# Altium integrated library Altium_WCAP-ASLI (rev25a).IntLib: 143 symbols (part 1 of 3)
Pins are listed as number, name and electrical type; pins without a type are passive.

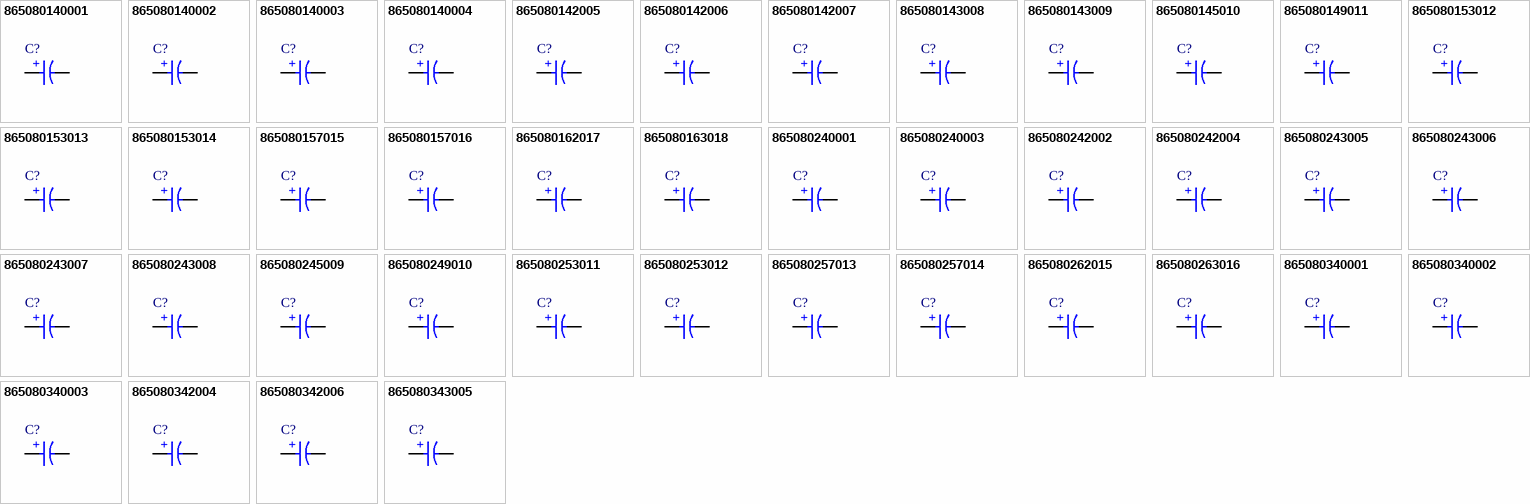
[diagram p0: symbols 865080140001 to 865080343005]

## 865080140001
designator C?, comment 22μF  (value not drawn)
WCAP-ASLI Aluminum Electrolytic Capacitor, V-Chip, SMT, 4mm x 5.5mm, 22μF, 6.3V; Manufacturer Part Number: 865080140001; Manufacturer: Wurth Elektronik; Dissipation Factor: 24%; Endurance: 2000h; Impedance: 2200mΩ; Leakage Current: 3μA; Ripple Current: 75mA; Category: Aluminum Electrolytic Capacitors; Match Code: WCAP-ASLI; ComponentLink1Description: Website Link; ComponentLink1URL: https://www.we-online.com/redexpert/article/865080140001?ad; ComponentLink2Description: Datasheet Link; ComponentLink2URL: https://www.we-online.com/redexpert/spec/865080140001?ad; Mount: Surface Mount; Min Operating Temperature: -55°C; Max Operating Temperature: 105°C; Packaging: Tape and Reel; Height: 5.5mm; Diameter: 4mm; Capacitance: 22μF; Rated Voltage (DC): 6.3V
footprint WCAP-ASLI_D4H5.5
simulation model 865080140001_22uF
pins: 1 P, 2 N
text: +

## 865080140002
designator C?, comment 27μF  (value not drawn)
WCAP-ASLI Aluminum Electrolytic Capacitor, V-Chip, SMT, 4mm x 5.5mm, 27μF, 6.3V; Manufacturer Part Number: 865080140002; Manufacturer: Wurth Elektronik; Dissipation Factor: 24%; Endurance: 2000h; Impedance: 1980mΩ; Leakage Current: 3μA; Ripple Current: 79mA; Category: Aluminum Electrolytic Capacitors; Match Code: WCAP-ASLI; ComponentLink1Description: Website Link; ComponentLink1URL: https://www.we-online.com/redexpert/article/865080140002?ad; ComponentLink2Description: Datasheet Link; ComponentLink2URL: https://www.we-online.com/redexpert/spec/865080140002?ad; Mount: Surface Mount; Min Operating Temperature: -55°C; Max Operating Temperature: 105°C; Packaging: Tape and Reel; Height: 5.5mm; Diameter: 4mm; Capacitance: 27μF; Rated Voltage (DC): 6.3V
footprint WCAP-ASLI_D4H5.5
simulation model 865080140002_27uF
pins: 1 P, 2 N
text: +

## 865080140003
designator C?, comment 33μF  (value not drawn)
WCAP-ASLI Aluminum Electrolytic Capacitor, V-Chip, SMT, 4mm x 5.5mm, 33μF, 6.3V; Manufacturer Part Number: 865080140003; Manufacturer: Wurth Elektronik; Dissipation Factor: 24%; Endurance: 2000h; Impedance: 1900mΩ; Leakage Current: 3μA; Ripple Current: 82mA; Category: Aluminum Electrolytic Capacitors; Match Code: WCAP-ASLI; ComponentLink1Description: Website Link; ComponentLink1URL: https://www.we-online.com/redexpert/article/865080140003?ad; ComponentLink2Description: Datasheet Link; ComponentLink2URL: https://www.we-online.com/redexpert/spec/865080140003?ad; Mount: Surface Mount; Min Operating Temperature: -55°C; Max Operating Temperature: 105°C; Packaging: Tape and Reel; Height: 5.5mm; Diameter: 4mm; Capacitance: 33μF; Rated Voltage (DC): 6.3V
footprint WCAP-ASLI_D4H5.5
simulation model 865080140003_33uF
pins: 1 P, 2 N
text: +

## 865080140004
designator C?, comment 47μF  (value not drawn)
WCAP-ASLI Aluminum Electrolytic Capacitor, V-Chip, SMT, 4mm x 5.5mm, 47μF, 6.3V; Manufacturer Part Number: 865080140004; Manufacturer: Wurth Elektronik; Dissipation Factor: 24%; Endurance: 2000h; Impedance: 1880mΩ; Leakage Current: 3μA; Ripple Current: 86mA; Category: Aluminum Electrolytic Capacitors; Match Code: WCAP-ASLI; ComponentLink1Description: Website Link; ComponentLink1URL: https://www.we-online.com/redexpert/article/865080140004?ad; ComponentLink2Description: Datasheet Link; ComponentLink2URL: https://www.we-online.com/redexpert/spec/865080140004?ad; Mount: Surface Mount; Min Operating Temperature: -55°C; Max Operating Temperature: 105°C; Packaging: Tape and Reel; Height: 5.5mm; Diameter: 4mm; Capacitance: 47μF; Rated Voltage (DC): 6.3V
footprint WCAP-ASLI_D4H5.5
simulation model 865080140004_47uF
pins: 1 P, 2 N
text: +

## 865080142005
designator C?, comment 56μF  (value not drawn)
WCAP-ASLI Aluminum Electrolytic Capacitor, V-Chip, SMT, 5mm x 5.5mm, 56μF, 6.3V; Manufacturer Part Number: 865080142005; Manufacturer: Wurth Elektronik; Dissipation Factor: 24%; Endurance: 2000h; Impedance: 1100mΩ; Leakage Current: 3.528μA; Ripple Current: 150mA; Category: Aluminum Electrolytic Capacitors; Match Code: WCAP-ASLI; ComponentLink1Description: Website Link; ComponentLink1URL: https://www.we-online.com/redexpert/article/865080142005?ad; ComponentLink2Description: Datasheet Link; ComponentLink2URL: https://www.we-online.com/redexpert/spec/865080142005?ad; Mount: Surface Mount; Min Operating Temperature: -55°C; Max Operating Temperature: 105°C; Packaging: Tape and Reel; Height: 5.5mm; Diameter: 5mm; Capacitance: 56μF; Rated Voltage (DC): 6.3V
footprint WCAP-ASLI_D5H5.5
simulation model 865080142005_56uF
pins: 1 P, 2 N
text: +

## 865080142006
designator C?, comment 68μF  (value not drawn)
WCAP-ASLI Aluminum Electrolytic Capacitor, V-Chip, SMT, 5mm x 5.5mm, 68μF, 6.3V; Manufacturer Part Number: 865080142006; Manufacturer: Wurth Elektronik; Dissipation Factor: 24%; Endurance: 2000h; Impedance: 900mΩ; Leakage Current: 4.284μA; Ripple Current: 160mA; Category: Aluminum Electrolytic Capacitors; Match Code: WCAP-ASLI; ComponentLink1Description: Website Link; ComponentLink1URL: https://www.we-online.com/redexpert/article/865080142006?ad; ComponentLink2Description: Datasheet Link; ComponentLink2URL: https://www.we-online.com/redexpert/spec/865080142006?ad; Mount: Surface Mount; Min Operating Temperature: -55°C; Max Operating Temperature: 105°C; Packaging: Tape and Reel; Height: 5.5mm; Diameter: 5mm; Capacitance: 68μF; Rated Voltage (DC): 6.3V
footprint WCAP-ASLI_D5H5.5
simulation model 865080142006_68uF
pins: 1 P, 2 N
text: +

## 865080142007
designator C?, comment 100μF  (value not drawn)
WCAP-ASLI Aluminum Electrolytic Capacitor, V-Chip, SMT, 5mm x 5.5mm, 100μF, 6.3V; Manufacturer Part Number: 865080142007; Manufacturer: Wurth Elektronik; Dissipation Factor: 24%; Endurance: 2000h; Impedance: 800mΩ; Leakage Current: 6.3μA; Ripple Current: 170mA; Category: Aluminum Electrolytic Capacitors; Match Code: WCAP-ASLI; ComponentLink1Description: Website Link; ComponentLink1URL: https://www.we-online.com/redexpert/article/865080142007?ad; ComponentLink2Description: Datasheet Link; ComponentLink2URL: https://www.we-online.com/redexpert/spec/865080142007?ad; Mount: Surface Mount; Min Operating Temperature: -55°C; Max Operating Temperature: 105°C; Packaging: Tape and Reel; Height: 5.5mm; Diameter: 5mm; Capacitance: 100μF; Rated Voltage (DC): 6.3V
footprint WCAP-ASLI_D5H5.5
simulation model 865080142007_100uF
pins: 1 P, 2 N
text: +

## 865080143008
designator C?, comment 150μF  (value not drawn)
WCAP-ASLI Aluminum Electrolytic Capacitor, V-Chip, SMT, 6.3mm x 5.5mm, 150μF, 6.3V; Manufacturer Part Number: 865080143008; Manufacturer: Wurth Elektronik; Dissipation Factor: 24%; Endurance: 2000h; Impedance: 510mΩ; Leakage Current: 9.45μA; Ripple Current: 235mA; Category: Aluminum Electrolytic Capacitors; Match Code: WCAP-ASLI; ComponentLink1Description: Website Link; ComponentLink1URL: https://www.we-online.com/redexpert/article/865080143008?ad; ComponentLink2Description: Datasheet Link; ComponentLink2URL: https://www.we-online.com/redexpert/spec/865080143008?ad; Mount: Surface Mount; Min Operating Temperature: -55°C; Max Operating Temperature: 105°C; Packaging: Tape and Reel; Height: 5.5mm; Diameter: 6.3mm; Capacitance: 150μF; Rated Voltage (DC): 6.3V
footprint WCAP-ASLI_D6.3H5.5
simulation model 865080143008_150uF
pins: 1 P, 2 N
text: +

## 865080143009
designator C?, comment 220μF  (value not drawn)
WCAP-ASLI Aluminum Electrolytic Capacitor, V-Chip, SMT, 6.3mm x 5.5mm, 220μF, 6.3V; Manufacturer Part Number: 865080143009; Manufacturer: Wurth Elektronik; Dissipation Factor: 24%; Endurance: 2000h; Impedance: 480mΩ; Leakage Current: 13.86μA; Ripple Current: 240mA; Category: Aluminum Electrolytic Capacitors; Match Code: WCAP-ASLI; ComponentLink1Description: Website Link; ComponentLink1URL: https://www.we-online.com/redexpert/article/865080143009?ad; ComponentLink2Description: Datasheet Link; ComponentLink2URL: https://www.we-online.com/redexpert/spec/865080143009?ad; Mount: Surface Mount; Min Operating Temperature: -55°C; Max Operating Temperature: 105°C; Packaging: Tape and Reel; Height: 5.5mm; Diameter: 6.3mm; Capacitance: 220μF; Rated Voltage (DC): 6.3V
footprint WCAP-ASLI_D6.3H5.5
simulation model 865080143009_220uF
pins: 1 P, 2 N
text: +

## 865080145010
designator C?, comment 330μF  (value not drawn)
WCAP-ASLI Aluminum Electrolytic Capacitor, V-Chip, SMT, 6.3mm x 7.7mm, 330μF, 6.3V; Manufacturer Part Number: 865080145010; Manufacturer: Wurth Elektronik; Dissipation Factor: 24%; Endurance: 2000h; Impedance: 360mΩ; Leakage Current: 20.79μA; Ripple Current: 275mA; Category: Aluminum Electrolytic Capacitors; Match Code: WCAP-ASLI; ComponentLink1Description: Website Link; ComponentLink1URL: https://www.we-online.com/redexpert/article/865080145010?ad; ComponentLink2Description: Datasheet Link; ComponentLink2URL: https://www.we-online.com/redexpert/spec/865080145010?ad; Mount: Surface Mount; Min Operating Temperature: -55°C; Max Operating Temperature: 105°C; Packaging: Tape and Reel; Height: 7.7mm; Diameter: 6.3mm; Capacitance: 330μF; Rated Voltage (DC): 6.3V
footprint WCAP-ASLI_D6.3H7.7
simulation model 865080145010_330uF
pins: 1 P, 2 N
text: +

## 865080149011
designator C?, comment 330μF  (value not drawn)
WCAP-ASLI Aluminum Electrolytic Capacitor, V-Chip, SMT, 8mm x 6.5mm, 330μF, 6.3V; Manufacturer Part Number: 865080149011; Manufacturer: Wurth Elektronik; Dissipation Factor: 24%; Endurance: 2000h; Impedance: 340mΩ; Leakage Current: 20.79μA; Ripple Current: 290mA; Category: Aluminum Electrolytic Capacitors; Match Code: WCAP-ASLI; ComponentLink1Description: Website Link; ComponentLink1URL: https://www.we-online.com/redexpert/article/865080149011?ad; ComponentLink2Description: Datasheet Link; ComponentLink2URL: https://www.we-online.com/redexpert/spec/865080149011?ad; Mount: Surface Mount; Min Operating Temperature: -55°C; Max Operating Temperature: 105°C; Packaging: Tape and Reel; Height: 6.5mm; Diameter: 8mm; Capacitance: 330μF; Rated Voltage (DC): 6.3V
footprint WCAP-ASLI_D8H6.5
simulation model 865080149011_330uF
pins: 1 P, 2 N
text: +

## 865080153012
designator C?, comment 470μF  (value not drawn)
WCAP-ASLI Aluminum Electrolytic Capacitor, V-Chip, SMT, 8mm x 10.5mm, 470μF, 6.3V; Manufacturer Part Number: 865080153012; Manufacturer: Wurth Elektronik; Dissipation Factor: 24%; Endurance: 2000h; Impedance: 280mΩ; Leakage Current: 29.61μA; Ripple Current: 450mA; Category: Aluminum Electrolytic Capacitors; Match Code: WCAP-ASLI; ComponentLink1Description: Website Link; ComponentLink1URL: https://www.we-online.com/redexpert/article/865080153012?ad; ComponentLink2Description: Datasheet Link; ComponentLink2URL: https://www.we-online.com/redexpert/spec/865080153012?ad; Mount: Surface Mount; Min Operating Temperature: -55°C; Max Operating Temperature: 105°C; Packaging: Tape and Reel; Height: 10.5mm; Diameter: 8mm; Capacitance: 470μF; Rated Voltage (DC): 6.3V
footprint WCAP-ASLI_D8H10.5
simulation model 865080153012_470uF
pins: 1 P, 2 N
text: +

## 865080153013
designator C?, comment 680μF  (value not drawn)
WCAP-ASLI Aluminum Electrolytic Capacitor, V-Chip, SMT, 8mm x 10.5mm, 680μF, 6.3V; Manufacturer Part Number: 865080153013; Manufacturer: Wurth Elektronik; Dissipation Factor: 24%; Endurance: 2000h; Impedance: 250mΩ; Leakage Current: 42.84μA; Ripple Current: 500mA; Category: Aluminum Electrolytic Capacitors; Match Code: WCAP-ASLI; ComponentLink1Description: Website Link; ComponentLink1URL: https://www.we-online.com/redexpert/article/865080153013?ad; ComponentLink2Description: Datasheet Link; ComponentLink2URL: https://www.we-online.com/redexpert/spec/865080153013?ad; Mount: Surface Mount; Min Operating Temperature: -55°C; Max Operating Temperature: 105°C; Packaging: Tape and Reel; Height: 10.5mm; Diameter: 8mm; Capacitance: 680μF; Rated Voltage (DC): 6.3V
footprint WCAP-ASLI_D8H10.5
simulation model 865080153013_680uF
pins: 1 P, 2 N
text: +

## 865080153014
designator C?, comment 1000μF  (value not drawn)
WCAP-ASLI Aluminum Electrolytic Capacitor, V-Chip, SMT, 8mm x 10.5mm, 1000μF, 6.3V; Manufacturer Part Number: 865080153014; Manufacturer: Wurth Elektronik; Dissipation Factor: 24%; Endurance: 2000h; Impedance: 200mΩ; Leakage Current: 63μA; Ripple Current: 530mA; Category: Aluminum Electrolytic Capacitors; Match Code: WCAP-ASLI; ComponentLink1Description: Website Link; ComponentLink1URL: https://www.we-online.com/redexpert/article/865080153014?ad; ComponentLink2Description: Datasheet Link; ComponentLink2URL: https://www.we-online.com/redexpert/spec/865080153014?ad; Mount: Surface Mount; Min Operating Temperature: -55°C; Max Operating Temperature: 105°C; Packaging: Tape and Reel; Height: 10.5mm; Diameter: 8mm; Capacitance: 1000μF; Rated Voltage (DC): 6.3V
footprint WCAP-ASLI_D8H10.5
simulation model 865080153014_1mF
pins: 1 P, 2 N
text: +

## 865080157015
designator C?, comment 1200μF  (value not drawn)
WCAP-ASLI Aluminum Electrolytic Capacitor, V-Chip, SMT, 10mm x 10.5mm, 1200μF, 6.3V; Manufacturer Part Number: 865080157015; Manufacturer: Wurth Elektronik; Dissipation Factor: 24%; Endurance: 2000h; Impedance: 160mΩ; Leakage Current: 75.6μA; Ripple Current: 600mA; Category: Aluminum Electrolytic Capacitors; Match Code: WCAP-ASLI; ComponentLink1Description: Website Link; ComponentLink1URL: https://www.we-online.com/redexpert/article/865080157015?ad; ComponentLink2Description: Datasheet Link; ComponentLink2URL: https://www.we-online.com/redexpert/spec/865080157015?ad; Mount: Surface Mount; Min Operating Temperature: -55°C; Max Operating Temperature: 105°C; Packaging: Tape and Reel; Height: 10.5mm; Diameter: 10mm; Capacitance: 1200μF; Rated Voltage (DC): 6.3V
footprint WCAP-ASLI_D10H10.5
simulation model 865080157015_1.2mF
pins: 1 P, 2 N
text: +

## 865080157016
designator C?, comment 1500μF  (value not drawn)
WCAP-ASLI Aluminum Electrolytic Capacitor, V-Chip, SMT, 10mm x 10.5mm, 1500μF, 6.3V; Manufacturer Part Number: 865080157016; Manufacturer: Wurth Elektronik; Dissipation Factor: 24%; Endurance: 2000h; Impedance: 130mΩ; Leakage Current: 94.5μA; Ripple Current: 650mA; Category: Aluminum Electrolytic Capacitors; Match Code: WCAP-ASLI; ComponentLink1Description: Website Link; ComponentLink1URL: https://www.we-online.com/redexpert/article/865080157016?ad; ComponentLink2Description: Datasheet Link; ComponentLink2URL: https://www.we-online.com/redexpert/spec/865080157016?ad; Mount: Surface Mount; Min Operating Temperature: -55°C; Max Operating Temperature: 105°C; Packaging: Tape and Reel; Height: 10.5mm; Diameter: 10mm; Capacitance: 1500μF; Rated Voltage (DC): 6.3V
footprint WCAP-ASLI_D10H10.5
simulation model 865080157016_1.5mF
pins: 1 P, 2 N
text: +

## 865080162017
designator C?, comment 3300μF  (value not drawn)
WCAP-ASLI Aluminum Electrolytic Capacitor, V-Chip, SMT, 12.5mm x 14mm, 3300μF, 6.3V; Manufacturer Part Number: 865080162017; Manufacturer: Wurth Elektronik; Dissipation Factor: 28%; Endurance: 5000h; Impedance: 80mΩ; Leakage Current: 207.9μA; Ripple Current: 1100mA; Category: Aluminum Electrolytic Capacitors; Match Code: WCAP-ASLI; ComponentLink1Description: Website Link; ComponentLink1URL: https://www.we-online.com/redexpert/article/865080162017?ad; ComponentLink2Description: Datasheet Link; ComponentLink2URL: https://www.we-online.com/redexpert/spec/865080162017?ad; Mount: Surface Mount; Min Operating Temperature: -55°C; Max Operating Temperature: 105°C; Packaging: Tape and Reel; Height: 14mm; Diameter: 12.5mm; Capacitance: 3300μF; Rated Voltage (DC): 6.3V
footprint WCAP-ASLI_D12.5H14
simulation model 865080162017_3.3mF
pins: 1 P, 2 N
text: +

## 865080163018
designator C?, comment 6800μF  (value not drawn)
WCAP-ASLI Aluminum Electrolytic Capacitor, V-Chip, SMT, 16mm x 17mm, 6800μF, 6.3V; Manufacturer Part Number: 865080163018; Manufacturer: Wurth Elektronik; Dissipation Factor: 34%; Endurance: 5000h; Impedance: 52mΩ; Leakage Current: 428.4μA; Ripple Current: 1250mA; Category: Aluminum Electrolytic Capacitors; Match Code: WCAP-ASLI; ComponentLink1Description: Website Link; ComponentLink1URL: https://www.we-online.com/redexpert/article/865080163018?ad; ComponentLink2Description: Datasheet Link; ComponentLink2URL: https://www.we-online.com/redexpert/spec/865080163018?ad; Mount: Surface Mount; Min Operating Temperature: -55°C; Max Operating Temperature: 105°C; Packaging: Tape and Reel; Height: 17mm; Diameter: 16mm; Capacitance: 6800μF; Rated Voltage (DC): 6.3V
footprint WCAP-ASLI_D16H17
simulation model 865080163018_6.8mF
pins: 1 P, 2 N
text: +

## 865080240001
designator C?, comment 22μF  (value not drawn)
WCAP-ASLI Aluminum Electrolytic Capacitor, V-Chip, SMT, 4mm x 5.5mm, 22μF, 10V; Manufacturer Part Number: 865080240001; Manufacturer: Wurth Elektronik; Dissipation Factor: 19%; Endurance: 2000h; Impedance: 2200mΩ; Leakage Current: 3μA; Ripple Current: 80mA; Category: Aluminum Electrolytic Capacitors; Match Code: WCAP-ASLI; ComponentLink1Description: Website Link; ComponentLink1URL: https://www.we-online.com/redexpert/article/865080240001?ad; ComponentLink2Description: Datasheet Link; ComponentLink2URL: https://www.we-online.com/redexpert/spec/865080240001?ad; Mount: Surface Mount; Min Operating Temperature: -55°C; Max Operating Temperature: 105°C; Packaging: Tape and Reel; Height: 5.5mm; Diameter: 4mm; Capacitance: 22μF; Rated Voltage (DC): 10V
footprint WCAP-ASLI_D4H5.5
simulation model 865080240001_22uF
pins: 1 P, 2 N
text: +

## 865080240003
designator C?, comment 33μF  (value not drawn)
WCAP-ASLI Aluminum Electrolytic Capacitor, V-Chip, SMT, 4mm x 5.5mm, 33μF, 10V; Manufacturer Part Number: 865080240003; Manufacturer: Wurth Elektronik; Dissipation Factor: 19%; Endurance: 2000h; Impedance: 1850mΩ; Leakage Current: 3.3μA; Ripple Current: 90mA; Category: Aluminum Electrolytic Capacitors; Match Code: WCAP-ASLI; ComponentLink1Description: Website Link; ComponentLink1URL: https://www.we-online.com/redexpert/article/865080240003?ad; ComponentLink2Description: Datasheet Link; ComponentLink2URL: https://www.we-online.com/redexpert/spec/865080240003?ad; Mount: Surface Mount; Min Operating Temperature: -55°C; Max Operating Temperature: 105°C; Packaging: Tape and Reel; Height: 5.5mm; Diameter: 4mm; Capacitance: 33μF; Rated Voltage (DC): 10V
footprint WCAP-ASLI_D4H5.5
simulation model 865080240003_33uF
pins: 1 P, 2 N
text: +

## 865080242002
designator C?, comment 27μF  (value not drawn)
WCAP-ASLI Aluminum Electrolytic Capacitor, V-Chip, SMT, 5mm x 5.5mm, 27μF, 10V; Manufacturer Part Number: 865080242002; Manufacturer: Wurth Elektronik; Dissipation Factor: 19%; Endurance: 2000h; Impedance: 1900mΩ; Leakage Current: 3μA; Ripple Current: 125mA; Category: Aluminum Electrolytic Capacitors; Match Code: WCAP-ASLI; ComponentLink1Description: Website Link; ComponentLink1URL: https://www.we-online.com/redexpert/article/865080242002?ad; ComponentLink2Description: Datasheet Link; ComponentLink2URL: https://www.we-online.com/redexpert/spec/865080242002?ad; Mount: Surface Mount; Min Operating Temperature: -55°C; Max Operating Temperature: 105°C; Packaging: Tape and Reel; Height: 5.5mm; Diameter: 5mm; Capacitance: 27μF; Rated Voltage (DC): 10V
footprint WCAP-ASLI_D5H5.5
simulation model 865080242002_27uF
pins: 1 P, 2 N
text: +

## 865080242004
designator C?, comment 47μF  (value not drawn)
WCAP-ASLI Aluminum Electrolytic Capacitor, V-Chip, SMT, 5mm x 5.5mm, 47μF, 10V; Manufacturer Part Number: 865080242004; Manufacturer: Wurth Elektronik; Dissipation Factor: 19%; Endurance: 2000h; Impedance: 1100mΩ; Leakage Current: 4.7μA; Ripple Current: 165mA; Category: Aluminum Electrolytic Capacitors; Match Code: WCAP-ASLI; ComponentLink1Description: Website Link; ComponentLink1URL: https://www.we-online.com/redexpert/article/865080242004?ad; ComponentLink2Description: Datasheet Link; ComponentLink2URL: https://www.we-online.com/redexpert/spec/865080242004?ad; Mount: Surface Mount; Min Operating Temperature: -55°C; Max Operating Temperature: 105°C; Packaging: Tape and Reel; Height: 5.5mm; Diameter: 5mm; Capacitance: 47μF; Rated Voltage (DC): 10V
footprint WCAP-ASLI_D5H5.5
simulation model 865080242004_47uF
pins: 1 P, 2 N
text: +

## 865080243005
designator C?, comment 56μF  (value not drawn)
WCAP-ASLI Aluminum Electrolytic Capacitor, V-Chip, SMT, 6.3mm x 5.5mm, 56μF, 10V; Manufacturer Part Number: 865080243005; Manufacturer: Wurth Elektronik; Dissipation Factor: 19%; Endurance: 2000h; Impedance: 570mΩ; Leakage Current: 5.6μA; Ripple Current: 210mA; Category: Aluminum Electrolytic Capacitors; Match Code: WCAP-ASLI; ComponentLink1Description: Website Link; ComponentLink1URL: https://www.we-online.com/redexpert/article/865080243005?ad; ComponentLink2Description: Datasheet Link; ComponentLink2URL: https://www.we-online.com/redexpert/spec/865080243005?ad; Mount: Surface Mount; Min Operating Temperature: -55°C; Max Operating Temperature: 105°C; Packaging: Tape and Reel; Height: 5.5mm; Diameter: 6.3mm; Capacitance: 56μF; Rated Voltage (DC): 10V
footprint WCAP-ASLI_D6.3H5.5
simulation model 865080243005_56uF
pins: 1 P, 2 N
text: +

## 865080243006
designator C?, comment 68μF  (value not drawn)
WCAP-ASLI Aluminum Electrolytic Capacitor, V-Chip, SMT, 6.3mm x 5.5mm, 68μF, 10V; Manufacturer Part Number: 865080243006; Manufacturer: Wurth Elektronik; Dissipation Factor: 19%; Endurance: 2000h; Impedance: 550mΩ; Leakage Current: 6.8μA; Ripple Current: 220mA; Category: Aluminum Electrolytic Capacitors; Match Code: WCAP-ASLI; ComponentLink1Description: Website Link; ComponentLink1URL: https://www.we-online.com/redexpert/article/865080243006?ad; ComponentLink2Description: Datasheet Link; ComponentLink2URL: https://www.we-online.com/redexpert/spec/865080243006?ad; Mount: Surface Mount; Min Operating Temperature: -55°C; Max Operating Temperature: 105°C; Packaging: Tape and Reel; Height: 5.5mm; Diameter: 6.3mm; Capacitance: 68μF; Rated Voltage (DC): 10V
footprint WCAP-ASLI_D6.3H5.5
simulation model 865080243006_68uF
pins: 1 P, 2 N
text: +

## 865080243007
designator C?, comment 100μF  (value not drawn)
WCAP-ASLI Aluminum Electrolytic Capacitor, V-Chip, SMT, 6.3mm x 5.5mm, 100μF, 10V; Manufacturer Part Number: 865080243007; Manufacturer: Wurth Elektronik; Dissipation Factor: 19%; Endurance: 2000h; Impedance: 530mΩ; Leakage Current: 10μA; Ripple Current: 240mA; Category: Aluminum Electrolytic Capacitors; Match Code: WCAP-ASLI; ComponentLink1Description: Website Link; ComponentLink1URL: https://www.we-online.com/redexpert/article/865080243007?ad; ComponentLink2Description: Datasheet Link; ComponentLink2URL: https://www.we-online.com/redexpert/spec/865080243007?ad; Mount: Surface Mount; Min Operating Temperature: -55°C; Max Operating Temperature: 105°C; Packaging: Tape and Reel; Height: 5.5mm; Diameter: 6.3mm; Capacitance: 100μF; Rated Voltage (DC): 10V
footprint WCAP-ASLI_D6.3H5.5
simulation model 865080243007_100uF
pins: 1 P, 2 N
text: +

## 865080243008
designator C?, comment 150μF  (value not drawn)
WCAP-ASLI Aluminum Electrolytic Capacitor, V-Chip, SMT, 6.3mm x 5.5mm, 150μF, 10V; Manufacturer Part Number: 865080243008; Manufacturer: Wurth Elektronik; Dissipation Factor: 19%; Endurance: 2000h; Impedance: 490mΩ; Leakage Current: 15μA; Ripple Current: 250mA; Category: Aluminum Electrolytic Capacitors; Match Code: WCAP-ASLI; ComponentLink1Description: Website Link; ComponentLink1URL: https://www.we-online.com/redexpert/article/865080243008?ad; ComponentLink2Description: Datasheet Link; ComponentLink2URL: https://www.we-online.com/redexpert/spec/865080243008?ad; Mount: Surface Mount; Min Operating Temperature: -55°C; Max Operating Temperature: 105°C; Packaging: Tape and Reel; Height: 5.5mm; Diameter: 6.3mm; Capacitance: 150μF; Rated Voltage (DC): 10V
footprint WCAP-ASLI_D6.3H5.5
simulation model 865080243008_150uF
pins: 1 P, 2 N
text: +

## 865080245009
designator C?, comment 220μF  (value not drawn)
WCAP-ASLI Aluminum Electrolytic Capacitor, V-Chip, SMT, 6.3mm x 7.7mm, 220μF, 10V; Manufacturer Part Number: 865080245009; Manufacturer: Wurth Elektronik; Dissipation Factor: 19%; Endurance: 2000h; Impedance: 440mΩ; Leakage Current: 22μA; Ripple Current: 270mA; Category: Aluminum Electrolytic Capacitors; Match Code: WCAP-ASLI; ComponentLink1Description: Website Link; ComponentLink1URL: https://www.we-online.com/redexpert/article/865080245009?ad; ComponentLink2Description: Datasheet Link; ComponentLink2URL: https://www.we-online.com/redexpert/spec/865080245009?ad; Mount: Surface Mount; Min Operating Temperature: -55°C; Max Operating Temperature: 105°C; Packaging: Tape and Reel; Height: 7.7mm; Diameter: 6.3mm; Capacitance: 220μF; Rated Voltage (DC): 10V
footprint WCAP-ASLI_D6.3H7.7
simulation model 865080245009_220uF
pins: 1 P, 2 N
text: +

## 865080249010
designator C?, comment 220μF  (value not drawn)
WCAP-ASLI Aluminum Electrolytic Capacitor, V-Chip, SMT, 8mm x 6.5mm, 220μF, 10V; Manufacturer Part Number: 865080249010; Manufacturer: Wurth Elektronik; Dissipation Factor: 19%; Endurance: 2000h; Impedance: 400mΩ; Leakage Current: 22μA; Ripple Current: 285mA; Category: Aluminum Electrolytic Capacitors; Match Code: WCAP-ASLI; ComponentLink1Description: Website Link; ComponentLink1URL: https://www.we-online.com/redexpert/article/865080249010?ad; ComponentLink2Description: Datasheet Link; ComponentLink2URL: https://www.we-online.com/redexpert/spec/865080249010?ad; Mount: Surface Mount; Min Operating Temperature: -55°C; Max Operating Temperature: 105°C; Packaging: Tape and Reel; Height: 6.5mm; Diameter: 8mm; Capacitance: 220μF; Rated Voltage (DC): 10V
footprint WCAP-ASLI_D8H6.5
simulation model 865080249010_220uF
pins: 1 P, 2 N
text: +

## 865080253011
designator C?, comment 330μF  (value not drawn)
WCAP-ASLI Aluminum Electrolytic Capacitor, V-Chip, SMT, 8mm x 10.5mm, 330μF, 10V; Manufacturer Part Number: 865080253011; Manufacturer: Wurth Elektronik; Dissipation Factor: 19%; Endurance: 2000h; Impedance: 250mΩ; Leakage Current: 33μA; Ripple Current: 500mA; Category: Aluminum Electrolytic Capacitors; Match Code: WCAP-ASLI; ComponentLink1Description: Website Link; ComponentLink1URL: https://www.we-online.com/redexpert/article/865080253011?ad; ComponentLink2Description: Datasheet Link; ComponentLink2URL: https://www.we-online.com/redexpert/spec/865080253011?ad; Mount: Surface Mount; Min Operating Temperature: -55°C; Max Operating Temperature: 105°C; Packaging: Tape and Reel; Height: 10.5mm; Diameter: 8mm; Capacitance: 330μF; Rated Voltage (DC): 10V
footprint WCAP-ASLI_D8H10.5
simulation model 865080253011_330uF
pins: 1 P, 2 N
text: +

## 865080253012
designator C?, comment 470μF  (value not drawn)
WCAP-ASLI Aluminum Electrolytic Capacitor, V-Chip, SMT, 8mm x 10.5mm, 470μF, 10V; Manufacturer Part Number: 865080253012; Manufacturer: Wurth Elektronik; Dissipation Factor: 19%; Endurance: 2000h; Impedance: 250mΩ; Leakage Current: 47μA; Ripple Current: 550mA; Category: Aluminum Electrolytic Capacitors; Match Code: WCAP-ASLI; ComponentLink1Description: Website Link; ComponentLink1URL: https://www.we-online.com/redexpert/article/865080253012?ad; ComponentLink2Description: Datasheet Link; ComponentLink2URL: https://www.we-online.com/redexpert/spec/865080253012?ad; Mount: Surface Mount; Min Operating Temperature: -55°C; Max Operating Temperature: 105°C; Packaging: Tape and Reel; Height: 10.5mm; Diameter: 8mm; Capacitance: 470μF; Rated Voltage (DC): 10V
footprint WCAP-ASLI_D8H10.5
simulation model 865080253012_470uF
pins: 1 P, 2 N
text: +

## 865080257013
designator C?, comment 680μF  (value not drawn)
WCAP-ASLI Aluminum Electrolytic Capacitor, V-Chip, SMT, 10mm x 10.5mm, 680μF, 10V; Manufacturer Part Number: 865080257013; Manufacturer: Wurth Elektronik; Dissipation Factor: 19%; Endurance: 2000h; Impedance: 200mΩ; Leakage Current: 68μA; Ripple Current: 680mA; Category: Aluminum Electrolytic Capacitors; Match Code: WCAP-ASLI; ComponentLink1Description: Website Link; ComponentLink1URL: https://www.we-online.com/redexpert/article/865080257013?ad; ComponentLink2Description: Datasheet Link; ComponentLink2URL: https://www.we-online.com/redexpert/spec/865080257013?ad; Mount: Surface Mount; Min Operating Temperature: -55°C; Max Operating Temperature: 105°C; Packaging: Tape and Reel; Height: 10.5mm; Diameter: 10mm; Capacitance: 680μF; Rated Voltage (DC): 10V
footprint WCAP-ASLI_D10H10.5
simulation model 865080257013_680uF
pins: 1 P, 2 N
text: +

## 865080257014
designator C?, comment 1000μF  (value not drawn)
WCAP-ASLI Aluminum Electrolytic Capacitor, V-Chip, SMT, 10mm x 10.5mm, 1000μF, 10V; Manufacturer Part Number: 865080257014; Manufacturer: Wurth Elektronik; Dissipation Factor: 19%; Endurance: 2000h; Impedance: 150mΩ; Leakage Current: 100μA; Ripple Current: 740mA; Category: Aluminum Electrolytic Capacitors; Match Code: WCAP-ASLI; ComponentLink1Description: Website Link; ComponentLink1URL: https://www.we-online.com/redexpert/article/865080257014?ad; ComponentLink2Description: Datasheet Link; ComponentLink2URL: https://www.we-online.com/redexpert/spec/865080257014?ad; Mount: Surface Mount; Min Operating Temperature: -55°C; Max Operating Temperature: 105°C; Packaging: Tape and Reel; Height: 10.5mm; Diameter: 10mm; Capacitance: 1000μF; Rated Voltage (DC): 10V
footprint WCAP-ASLI_D10H10.5
simulation model 865080257014_1mF
pins: 1 P, 2 N
text: +

## 865080262015
designator C?, comment 2200μF  (value not drawn)
WCAP-ASLI Aluminum Electrolytic Capacitor, V-Chip, SMT, 12.5mm x 14mm, 2200μF, 10V; Manufacturer Part Number: 865080262015; Manufacturer: Wurth Elektronik; Dissipation Factor: 21%; Endurance: 5000h; Impedance: 80mΩ; Leakage Current: 220μA; Ripple Current: 1100mA; Category: Aluminum Electrolytic Capacitors; Match Code: WCAP-ASLI; ComponentLink1Description: Website Link; ComponentLink1URL: https://www.we-online.com/redexpert/article/865080262015?ad; ComponentLink2Description: Datasheet Link; ComponentLink2URL: https://www.we-online.com/redexpert/spec/865080262015?ad; Mount: Surface Mount; Min Operating Temperature: -55°C; Max Operating Temperature: 105°C; Packaging: Tape and Reel; Height: 14mm; Diameter: 12.5mm; Capacitance: 2200μF; Rated Voltage (DC): 10V
footprint WCAP-ASLI_D12.5H14
simulation model 865080262015_2.2mF
pins: 1 P, 2 N
text: +

## 865080263016
designator C?, comment 4700μF  (value not drawn)
WCAP-ASLI Aluminum Electrolytic Capacitor, V-Chip, SMT, 16mm x 17mm, 4700μF, 10V; Manufacturer Part Number: 865080263016; Manufacturer: Wurth Elektronik; Dissipation Factor: 25%; Endurance: 5000h; Impedance: 52mΩ; Leakage Current: 470μA; Ripple Current: 1250mA; Category: Aluminum Electrolytic Capacitors; Match Code: WCAP-ASLI; ComponentLink1Description: Website Link; ComponentLink1URL: https://www.we-online.com/redexpert/article/865080263016?ad; ComponentLink2Description: Datasheet Link; ComponentLink2URL: https://www.we-online.com/redexpert/spec/865080263016?ad; Mount: Surface Mount; Min Operating Temperature: -55°C; Max Operating Temperature: 105°C; Packaging: Tape and Reel; Height: 17mm; Diameter: 16mm; Capacitance: 4700μF; Rated Voltage (DC): 10V
footprint WCAP-ASLI_D16H17
simulation model 865080263016_4.7mF
pins: 1 P, 2 N
text: +

## 865080340001
designator C?, comment 10μF  (value not drawn)
WCAP-ASLI Aluminum Electrolytic Capacitor, V-Chip, SMT, 4mm x 5.5mm, 10μF, 16V; Manufacturer Part Number: 865080340001; Manufacturer: Wurth Elektronik; Dissipation Factor: 16%; Endurance: 2000h; Impedance: 2200mΩ; Leakage Current: 3μA; Ripple Current: 80mA; Category: Aluminum Electrolytic Capacitors; Match Code: WCAP-ASLI; ComponentLink1Description: Website Link; ComponentLink1URL: https://www.we-online.com/redexpert/article/865080340001?ad; ComponentLink2Description: Datasheet Link; ComponentLink2URL: https://www.we-online.com/redexpert/spec/865080340001?ad; Mount: Surface Mount; Min Operating Temperature: -55°C; Max Operating Temperature: 105°C; Packaging: Tape and Reel; Height: 5.5mm; Diameter: 4mm; Capacitance: 10μF; Rated Voltage (DC): 16V
footprint WCAP-ASLI_D4H5.5
simulation model 865080340001_10uF
pins: 1 P, 2 N
text: +

## 865080340002
designator C?, comment 15μF  (value not drawn)
WCAP-ASLI Aluminum Electrolytic Capacitor, V-Chip, SMT, 4mm x 5.5mm, 15μF, 16V; Manufacturer Part Number: 865080340002; Manufacturer: Wurth Elektronik; Dissipation Factor: 16%; Endurance: 2000h; Impedance: 2000mΩ; Leakage Current: 3μA; Ripple Current: 85mA; Category: Aluminum Electrolytic Capacitors; Match Code: WCAP-ASLI; ComponentLink1Description: Website Link; ComponentLink1URL: https://www.we-online.com/redexpert/article/865080340002?ad; ComponentLink2Description: Datasheet Link; ComponentLink2URL: https://www.we-online.com/redexpert/spec/865080340002?ad; Mount: Surface Mount; Min Operating Temperature: -55°C; Max Operating Temperature: 105°C; Packaging: Tape and Reel; Height: 5.5mm; Diameter: 4mm; Capacitance: 15μF; Rated Voltage (DC): 16V
footprint WCAP-ASLI_D4H5.5
simulation model 865080340002_15uF
pins: 1 P, 2 N
text: +

## 865080340003
designator C?, comment 22μF  (value not drawn)
WCAP-ASLI Aluminum Electrolytic Capacitor, V-Chip, SMT, 4mm x 5.5mm, 22μF, 16V; Manufacturer Part Number: 865080340003; Manufacturer: Wurth Elektronik; Dissipation Factor: 16%; Endurance: 2000h; Impedance: 1980mΩ; Leakage Current: 3.52μA; Ripple Current: 90mA; Category: Aluminum Electrolytic Capacitors; Match Code: WCAP-ASLI; ComponentLink1Description: Website Link; ComponentLink1URL: https://www.we-online.com/redexpert/article/865080340003?ad; ComponentLink2Description: Datasheet Link; ComponentLink2URL: https://www.we-online.com/redexpert/spec/865080340003?ad; Mount: Surface Mount; Min Operating Temperature: -55°C; Max Operating Temperature: 105°C; Packaging: Tape and Reel; Height: 5.5mm; Diameter: 4mm; Capacitance: 22μF; Rated Voltage (DC): 16V
footprint WCAP-ASLI_D4H5.5
simulation model 865080340003_22uF
pins: 1 P, 2 N
text: +

## 865080342004
designator C?, comment 27μF  (value not drawn)
WCAP-ASLI Aluminum Electrolytic Capacitor, V-Chip, SMT, 5mm x 5.5mm, 27μF, 16V; Manufacturer Part Number: 865080342004; Manufacturer: Wurth Elektronik; Dissipation Factor: 16%; Endurance: 2000h; Impedance: 740mΩ; Leakage Current: 4.32μA; Ripple Current: 170mA; Category: Aluminum Electrolytic Capacitors; Match Code: WCAP-ASLI; ComponentLink1Description: Website Link; ComponentLink1URL: https://www.we-online.com/redexpert/article/865080342004?ad; ComponentLink2Description: Datasheet Link; ComponentLink2URL: https://www.we-online.com/redexpert/spec/865080342004?ad; Mount: Surface Mount; Min Operating Temperature: -55°C; Max Operating Temperature: 105°C; Packaging: Tape and Reel; Height: 5.5mm; Diameter: 5mm; Capacitance: 27μF; Rated Voltage (DC): 16V
footprint WCAP-ASLI_D5H5.5
simulation model 865080342004_27uF
pins: 1 P, 2 N
text: +

## 865080342006
designator C?, comment 47μF  (value not drawn)
WCAP-ASLI Aluminum Electrolytic Capacitor, V-Chip, SMT, 5mm x 5.5mm, 47μF, 16V; Manufacturer Part Number: 865080342006; Manufacturer: Wurth Elektronik; Dissipation Factor: 16%; Endurance: 2000h; Impedance: 1050mΩ; Leakage Current: 7.52μA; Ripple Current: 195mA; Category: Aluminum Electrolytic Capacitors; Match Code: WCAP-ASLI; ComponentLink1Description: Website Link; ComponentLink1URL: https://www.we-online.com/redexpert/article/865080342006?ad; ComponentLink2Description: Datasheet Link; ComponentLink2URL: https://www.we-online.com/redexpert/spec/865080342006?ad; Mount: Surface Mount; Min Operating Temperature: -55°C; Max Operating Temperature: 105°C; Packaging: Tape and Reel; Height: 5.5mm; Diameter: 5mm; Capacitance: 47μF; Rated Voltage (DC): 16V
footprint WCAP-ASLI_D5H5.5
simulation model 865080342006_47uF
pins: 1 P, 2 N
text: +

## 865080343005
designator C?, comment 33μF  (value not drawn)
WCAP-ASLI Aluminum Electrolytic Capacitor, V-Chip, SMT, 6.3mm x 5.5mm, 33μF, 16V; Manufacturer Part Number: 865080343005; Manufacturer: Wurth Elektronik; Dissipation Factor: 16%; Endurance: 2000h; Impedance: 600mΩ; Leakage Current: 5.28μA; Ripple Current: 185mA; Category: Aluminum Electrolytic Capacitors; Match Code: WCAP-ASLI; ComponentLink1Description: Website Link; ComponentLink1URL: https://www.we-online.com/redexpert/article/865080343005?ad; ComponentLink2Description: Datasheet Link; ComponentLink2URL: https://www.we-online.com/redexpert/spec/865080343005?ad; Mount: Surface Mount; Min Operating Temperature: -55°C; Max Operating Temperature: 105°C; Packaging: Tape and Reel; Height: 5.5mm; Diameter: 6.3mm; Capacitance: 33μF; Rated Voltage (DC): 16V
footprint WCAP-ASLI_D6.3H5.5
simulation model 865080343005_33uF
pins: 1 P, 2 N
text: +

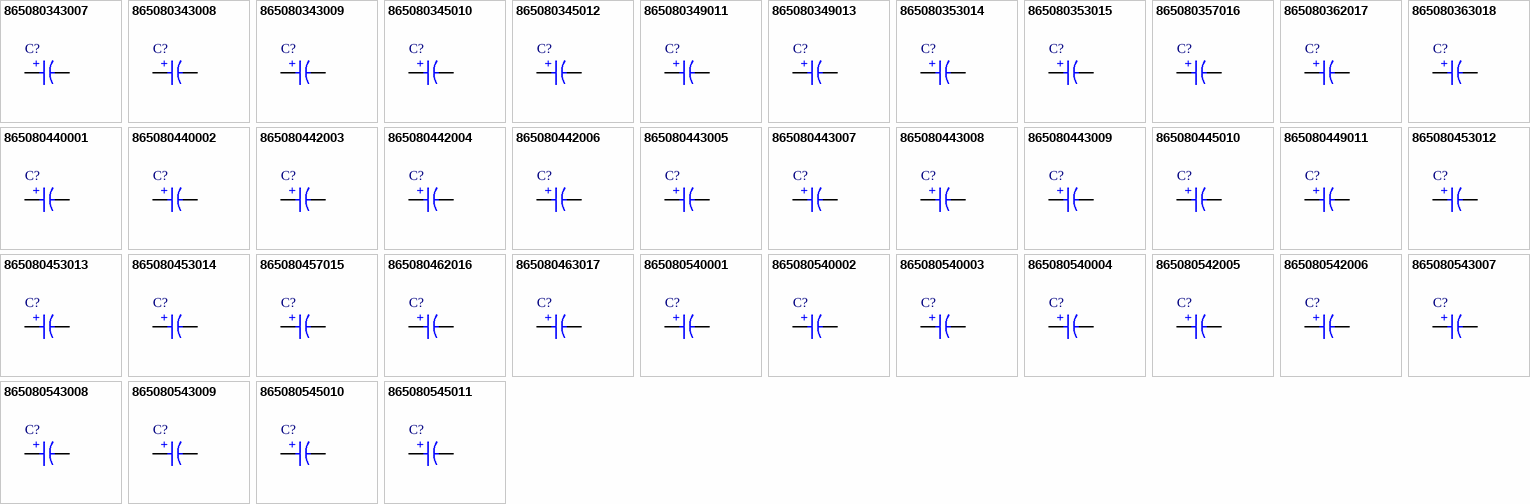
[diagram p1: symbols 865080343007 to 865080545011]

## 865080343007
designator C?, comment 56μF  (value not drawn)
WCAP-ASLI Aluminum Electrolytic Capacitor, V-Chip, SMT, 6.3mm x 5.5mm, 56μF, 16V; Manufacturer Part Number: 865080343007; Manufacturer: Wurth Elektronik; Dissipation Factor: 16%; Endurance: 2000h; Impedance: 560mΩ; Leakage Current: 8.96μA; Ripple Current: 220mA; Category: Aluminum Electrolytic Capacitors; Match Code: WCAP-ASLI; ComponentLink1Description: Website Link; ComponentLink1URL: https://www.we-online.com/redexpert/article/865080343007?ad; ComponentLink2Description: Datasheet Link; ComponentLink2URL: https://www.we-online.com/redexpert/spec/865080343007?ad; Mount: Surface Mount; Min Operating Temperature: -55°C; Max Operating Temperature: 105°C; Packaging: Tape and Reel; Height: 5.5mm; Diameter: 6.3mm; Capacitance: 56μF; Rated Voltage (DC): 16V
footprint WCAP-ASLI_D6.3H5.5
simulation model 865080343007_56uF
pins: 1 P, 2 N
text: +

## 865080343008
designator C?, comment 68μF  (value not drawn)
WCAP-ASLI Aluminum Electrolytic Capacitor, V-Chip, SMT, 6.3mm x 5.5mm, 68μF, 16V; Manufacturer Part Number: 865080343008; Manufacturer: Wurth Elektronik; Dissipation Factor: 16%; Endurance: 2000h; Impedance: 540mΩ; Leakage Current: 10.88μA; Ripple Current: 230mA; Category: Aluminum Electrolytic Capacitors; Match Code: WCAP-ASLI; ComponentLink1Description: Website Link; ComponentLink1URL: https://www.we-online.com/redexpert/article/865080343008?ad; ComponentLink2Description: Datasheet Link; ComponentLink2URL: https://www.we-online.com/redexpert/spec/865080343008?ad; Mount: Surface Mount; Min Operating Temperature: -55°C; Max Operating Temperature: 105°C; Packaging: Tape and Reel; Height: 5.5mm; Diameter: 6.3mm; Capacitance: 68μF; Rated Voltage (DC): 16V
footprint WCAP-ASLI_D6.3H5.5
simulation model 865080343008_68uF
pins: 1 P, 2 N
text: +

## 865080343009
designator C?, comment 100μF  (value not drawn)
WCAP-ASLI Aluminum Electrolytic Capacitor, V-Chip, SMT, 6.3mm x 5.5mm, 100μF, 16V; Manufacturer Part Number: 865080343009; Manufacturer: Wurth Elektronik; Dissipation Factor: 16%; Endurance: 2000h; Impedance: 520mΩ; Leakage Current: 16μA; Ripple Current: 255mA; Category: Aluminum Electrolytic Capacitors; Match Code: WCAP-ASLI; ComponentLink1Description: Website Link; ComponentLink1URL: https://www.we-online.com/redexpert/article/865080343009?ad; ComponentLink2Description: Datasheet Link; ComponentLink2URL: https://www.we-online.com/redexpert/spec/865080343009?ad; Mount: Surface Mount; Min Operating Temperature: -55°C; Max Operating Temperature: 105°C; Packaging: Tape and Reel; Height: 5.5mm; Diameter: 6.3mm; Capacitance: 100μF; Rated Voltage (DC): 16V
footprint WCAP-ASLI_D6.3H5.5
simulation model 865080343009_100uF
pins: 1 P, 2 N
text: +

## 865080345010
designator C?, comment 150μF  (value not drawn)
WCAP-ASLI Aluminum Electrolytic Capacitor, V-Chip, SMT, 6.3mm x 7.7mm, 150μF, 16V; Manufacturer Part Number: 865080345010; Manufacturer: Wurth Elektronik; Dissipation Factor: 16%; Endurance: 2000h; Impedance: 450mΩ; Leakage Current: 24μA; Ripple Current: 265mA; Category: Aluminum Electrolytic Capacitors; Match Code: WCAP-ASLI; ComponentLink1Description: Website Link; ComponentLink1URL: https://www.we-online.com/redexpert/article/865080345010?ad; ComponentLink2Description: Datasheet Link; ComponentLink2URL: https://www.we-online.com/redexpert/spec/865080345010?ad; Mount: Surface Mount; Min Operating Temperature: -55°C; Max Operating Temperature: 105°C; Packaging: Tape and Reel; Height: 7.7mm; Diameter: 6.3mm; Capacitance: 150μF; Rated Voltage (DC): 16V
footprint WCAP-ASLI_D6.3H7.7
simulation model 865080345010_150uF
pins: 1 P, 2 N
text: +

## 865080345012
designator C?, comment 220μF  (value not drawn)
WCAP-ASLI Aluminum Electrolytic Capacitor, V-Chip, SMT, 6.3mm x 7.7mm, 220μF, 16V; Manufacturer Part Number: 865080345012; Manufacturer: Wurth Elektronik; Dissipation Factor: 16%; Endurance: 2000h; Impedance: 430mΩ; Leakage Current: 35.2μA; Ripple Current: 275mA; Category: Aluminum Electrolytic Capacitors; Match Code: WCAP-ASLI; ComponentLink1Description: Website Link; ComponentLink1URL: https://www.we-online.com/redexpert/article/865080345012?ad; ComponentLink2Description: Datasheet Link; ComponentLink2URL: https://www.we-online.com/redexpert/spec/865080345012?ad; Mount: Surface Mount; Min Operating Temperature: -55°C; Max Operating Temperature: 105°C; Packaging: Tape and Reel; Height: 7.7mm; Diameter: 6.3mm; Capacitance: 220μF; Rated Voltage (DC): 16V
footprint WCAP-ASLI_D6.3H7.7
simulation model 865080345012_220uF
pins: 1 P, 2 N
text: +

## 865080349011
designator C?, comment 150μF  (value not drawn)
WCAP-ASLI Aluminum Electrolytic Capacitor, V-Chip, SMT, 8mm x 6.5mm, 150μF, 16V; Manufacturer Part Number: 865080349011; Manufacturer: Wurth Elektronik; Dissipation Factor: 16%; Endurance: 2000h; Impedance: 440mΩ; Leakage Current: 24μA; Ripple Current: 270mA; Category: Aluminum Electrolytic Capacitors; Match Code: WCAP-ASLI; ComponentLink1Description: Website Link; ComponentLink1URL: https://www.we-online.com/redexpert/article/865080349011?ad; ComponentLink2Description: Datasheet Link; ComponentLink2URL: https://www.we-online.com/redexpert/spec/865080349011?ad; Mount: Surface Mount; Min Operating Temperature: -55°C; Max Operating Temperature: 105°C; Packaging: Tape and Reel; Height: 6.5mm; Diameter: 8mm; Capacitance: 150μF; Rated Voltage (DC): 16V
footprint WCAP-ASLI_D8H6.5
simulation model 865080349011_150uF
pins: 1 P, 2 N
text: +

## 865080349013
designator C?, comment 220μF  (value not drawn)
WCAP-ASLI Aluminum Electrolytic Capacitor, V-Chip, SMT, 8mm x 6.5mm, 220μF, 16V; Manufacturer Part Number: 865080349013; Manufacturer: Wurth Elektronik; Dissipation Factor: 16%; Endurance: 2000h; Impedance: 410mΩ; Leakage Current: 35.2μA; Ripple Current: 285mA; Category: Aluminum Electrolytic Capacitors; Match Code: WCAP-ASLI; ComponentLink1Description: Website Link; ComponentLink1URL: https://www.we-online.com/redexpert/article/865080349013?ad; ComponentLink2Description: Datasheet Link; ComponentLink2URL: https://www.we-online.com/redexpert/spec/865080349013?ad; Mount: Surface Mount; Min Operating Temperature: -55°C; Max Operating Temperature: 105°C; Packaging: Tape and Reel; Height: 6.5mm; Diameter: 8mm; Capacitance: 220μF; Rated Voltage (DC): 16V
footprint WCAP-ASLI_D8H6.5
simulation model 865080349013_220uF
pins: 1 P, 2 N
text: +

## 865080353014
designator C?, comment 330μF  (value not drawn)
WCAP-ASLI Aluminum Electrolytic Capacitor, V-Chip, SMT, 8mm x 10.5mm, 330μF, 16V; Manufacturer Part Number: 865080353014; Manufacturer: Wurth Elektronik; Dissipation Factor: 16%; Endurance: 2000h; Impedance: 250mΩ; Leakage Current: 52.8μA; Ripple Current: 550mA; Category: Aluminum Electrolytic Capacitors; Match Code: WCAP-ASLI; ComponentLink1Description: Website Link; ComponentLink1URL: https://www.we-online.com/redexpert/article/865080353014?ad; ComponentLink2Description: Datasheet Link; ComponentLink2URL: https://www.we-online.com/redexpert/spec/865080353014?ad; Mount: Surface Mount; Min Operating Temperature: -55°C; Max Operating Temperature: 105°C; Packaging: Tape and Reel; Height: 10.5mm; Diameter: 8mm; Capacitance: 330μF; Rated Voltage (DC): 16V
footprint WCAP-ASLI_D8H10.5
simulation model 865080353014_330uF
pins: 1 P, 2 N
text: +

## 865080353015
designator C?, comment 470μF  (value not drawn)
WCAP-ASLI Aluminum Electrolytic Capacitor, V-Chip, SMT, 8mm x 10.5mm, 470μF, 16V; Manufacturer Part Number: 865080353015; Manufacturer: Wurth Elektronik; Dissipation Factor: 16%; Endurance: 2000h; Impedance: 220mΩ; Leakage Current: 75.2μA; Ripple Current: 590mA; Category: Aluminum Electrolytic Capacitors; Match Code: WCAP-ASLI; ComponentLink1Description: Website Link; ComponentLink1URL: https://www.we-online.com/redexpert/article/865080353015?ad; ComponentLink2Description: Datasheet Link; ComponentLink2URL: https://www.we-online.com/redexpert/spec/865080353015?ad; Mount: Surface Mount; Min Operating Temperature: -55°C; Max Operating Temperature: 105°C; Packaging: Tape and Reel; Height: 10.5mm; Diameter: 8mm; Capacitance: 470μF; Rated Voltage (DC): 16V
footprint WCAP-ASLI_D8H10.5
simulation model 865080353015_470uF
pins: 1 P, 2 N
text: +

## 865080357016
designator C?, comment 680μF  (value not drawn)
WCAP-ASLI Aluminum Electrolytic Capacitor, V-Chip, SMT, 10mm x 10.5mm, 680μF, 16V; Manufacturer Part Number: 865080357016; Manufacturer: Wurth Elektronik; Dissipation Factor: 16%; Endurance: 2000h; Impedance: 160mΩ; Leakage Current: 108.8μA; Ripple Current: 720mA; Category: Aluminum Electrolytic Capacitors; Match Code: WCAP-ASLI; ComponentLink1Description: Website Link; ComponentLink1URL: https://www.we-online.com/redexpert/article/865080357016?ad; ComponentLink2Description: Datasheet Link; ComponentLink2URL: https://www.we-online.com/redexpert/spec/865080357016?ad; Mount: Surface Mount; Min Operating Temperature: -55°C; Max Operating Temperature: 105°C; Packaging: Tape and Reel; Height: 10.5mm; Diameter: 10mm; Capacitance: 680μF; Rated Voltage (DC): 16V
footprint WCAP-ASLI_D10H10.5
simulation model 865080357016_680uF
pins: 1 P, 2 N
text: +

## 865080362017
designator C?, comment 1500μF  (value not drawn)
WCAP-ASLI Aluminum Electrolytic Capacitor, V-Chip, SMT, 12.5mm x 14mm, 1500μF, 16V; Manufacturer Part Number: 865080362017; Manufacturer: Wurth Elektronik; Dissipation Factor: 16%; Endurance: 5000h; Impedance: 80mΩ; Leakage Current: 240μA; Ripple Current: 1100mA; Category: Aluminum Electrolytic Capacitors; Match Code: WCAP-ASLI; ComponentLink1Description: Website Link; ComponentLink1URL: https://www.we-online.com/redexpert/article/865080362017?ad; ComponentLink2Description: Datasheet Link; ComponentLink2URL: https://www.we-online.com/redexpert/spec/865080362017?ad; Mount: Surface Mount; Min Operating Temperature: -55°C; Max Operating Temperature: 105°C; Packaging: Tape and Reel; Height: 14mm; Diameter: 12.5mm; Capacitance: 1500μF; Rated Voltage (DC): 16V
footprint WCAP-ASLI_D12.5H14
simulation model 865080362017_1.5mF
pins: 1 P, 2 N
text: +

## 865080363018
designator C?, comment 3300μF  (value not drawn)
WCAP-ASLI Aluminum Electrolytic Capacitor, V-Chip, SMT, 16mm x 17mm, 3300μF, 16V; Manufacturer Part Number: 865080363018; Manufacturer: Wurth Elektronik; Dissipation Factor: 20%; Endurance: 5000h; Impedance: 52mΩ; Leakage Current: 528μA; Ripple Current: 1250mA; Category: Aluminum Electrolytic Capacitors; Match Code: WCAP-ASLI; ComponentLink1Description: Website Link; ComponentLink1URL: https://www.we-online.com/redexpert/article/865080363018?ad; ComponentLink2Description: Datasheet Link; ComponentLink2URL: https://www.we-online.com/redexpert/spec/865080363018?ad; Mount: Surface Mount; Min Operating Temperature: -55°C; Max Operating Temperature: 105°C; Packaging: Tape and Reel; Height: 17mm; Diameter: 16mm; Capacitance: 3300μF; Rated Voltage (DC): 16V
footprint WCAP-ASLI_D16H17
simulation model 865080363018_3.3mF
pins: 1 P, 2 N
text: +

## 865080440001
designator C?, comment 6.8μF  (value not drawn)
WCAP-ASLI Aluminum Electrolytic Capacitor, V-Chip, SMT, 4mm x 5.5mm, 6.8μF, 25V; Manufacturer Part Number: 865080440001; Manufacturer: Wurth Elektronik; Dissipation Factor: 14%; Endurance: 2000h; Impedance: 2800mΩ; Leakage Current: 3μA; Ripple Current: 70mA; Category: Aluminum Electrolytic Capacitors; Match Code: WCAP-ASLI; ComponentLink1Description: Website Link; ComponentLink1URL: https://www.we-online.com/redexpert/article/865080440001?ad; ComponentLink2Description: Datasheet Link; ComponentLink2URL: https://www.we-online.com/redexpert/spec/865080440001?ad; Mount: Surface Mount; Min Operating Temperature: -55°C; Max Operating Temperature: 105°C; Packaging: Tape and Reel; Height: 5.5mm; Diameter: 4mm; Capacitance: 6.8μF; Rated Voltage (DC): 25V
footprint WCAP-ASLI_D4H5.5
simulation model 865080440001_6.8uF
pins: 1 P, 2 N
text: +

## 865080440002
designator C?, comment 10μF  (value not drawn)
WCAP-ASLI Aluminum Electrolytic Capacitor, V-Chip, SMT, 4mm x 5.5mm, 10μF, 25V; Manufacturer Part Number: 865080440002; Manufacturer: Wurth Elektronik; Dissipation Factor: 14%; Endurance: 2000h; Impedance: 2100mΩ; Leakage Current: 3μA; Ripple Current: 85mA; Category: Aluminum Electrolytic Capacitors; Match Code: WCAP-ASLI; ComponentLink1Description: Website Link; ComponentLink1URL: https://www.we-online.com/redexpert/article/865080440002?ad; ComponentLink2Description: Datasheet Link; ComponentLink2URL: https://www.we-online.com/redexpert/spec/865080440002?ad; Mount: Surface Mount; Min Operating Temperature: -55°C; Max Operating Temperature: 105°C; Packaging: Tape and Reel; Height: 5.5mm; Diameter: 4mm; Capacitance: 10μF; Rated Voltage (DC): 25V
footprint WCAP-ASLI_D4H5.5
simulation model 865080440002_10uF
pins: 1 P, 2 N
text: +